# Altium footprint library PCB Passives.PcbLib: 50 footprints (part 4 of 4)
Each footprint in its own frame and in the unit in brackets; x right, y up, seen from the top. Pads: shape width x height; smd on the part's side, far side on the other; paste and mask are expansions set on the pad; w line width, h text height; cw(c..) or ccw(c..) is an arc to the next point about the centre after c.
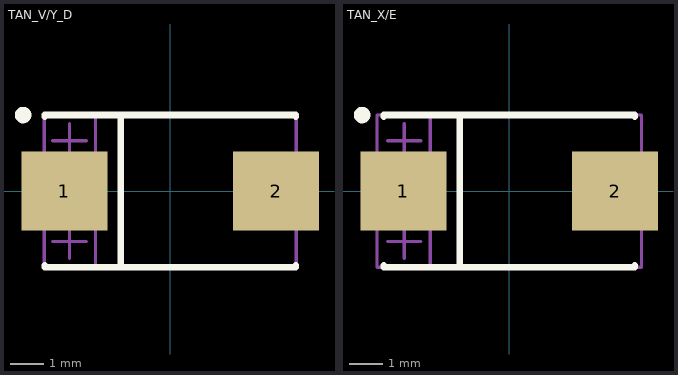
[diagram p3: the footprints below, top view; thin cyan lines are the x and y axes]

## TAN_V/Y_D [mm] "Capacitor, SM Tantalum; Body 7.3 x 4.3 mm (LxW typ)"
height 3.1
pads (2):
  rect 2.6x2.4 smd: 1(-3.2,0) 2(3.2,0)
Top Overlay:
  circle w0.25: c-4.45,2.3 r0.125
  lines w0.2: -3.8,-2.25 -3.8,-2.3 3.8,-2.3 3.8,-2.25 ; -3.8,2.25 -3.8,2.3 3.8,2.3 3.8,2.25 ; -1.5,-2.3 -1.5,2.3
Mechanical 29:
  lines w0.1: -3.556,-1.524 -2.54,-1.524 ; -3.556,0 -2.54,0 ; -3.556,1.524 -2.54,1.524 ; -3.048,-2.032 -3.048,-1.016 ; -3.048,-0.508 -3.048,0.508 ; -3.048,1.016 -3.048,2.032 ; -2.261,-2.286 -2.261,2.286 ; -3.81,-2.286 3.81,-2.286 3.81,2.286 -3.81,2.286 -3.81,-2.286
  text ".Designator" at -0.889,-0.381 h0.9
3D body "CAPM-TANTD-YEL.stp": height 3.1, standoff 0, extent -3.748,-2.25 3.752,2.25

## TAN_X/E [mm] "Capacitor, SM Tantalum; Body 7.3 x 4.3 mm (LxW typ)"
height 4.3
pads (2):
  rect 2.6x2.4 smd: 1(-3.2,0) 2(3.2,0)
Top Overlay:
  circle w0.25: c-4.45,2.3 r0.125
  lines w0.2: -3.8,-2.25 -3.8,-2.3 3.8,-2.3 3.8,-2.25 ; -3.8,2.25 -3.8,2.3 3.8,2.3 3.8,2.25 ; -1.5,-2.3 -1.5,2.3
Mechanical 29:
  lines w0.1: -3.683,-1.524 -2.667,-1.524 ; -3.683,0 -2.667,0 ; -3.683,1.524 -2.667,1.524 ; -3.175,-2.032 -3.175,-1.016 ; -3.175,-0.508 -3.175,0.508 ; -3.175,1.016 -3.175,2.032 ; -2.388,-2.286 -2.388,2.286 ; -4,-2.3 -4,2.3 4,2.3 4,-2.3 -4,-2.3
  text ".Designator" at -1.9,-0.3 h0.8
3D body "X-7343-43.STEP": height 3.91, standoff 0, extent -3.956,-2.326 3.948,2.327